# EAGLE library part 2MM-DUAL-8-HEADER (library DAC)
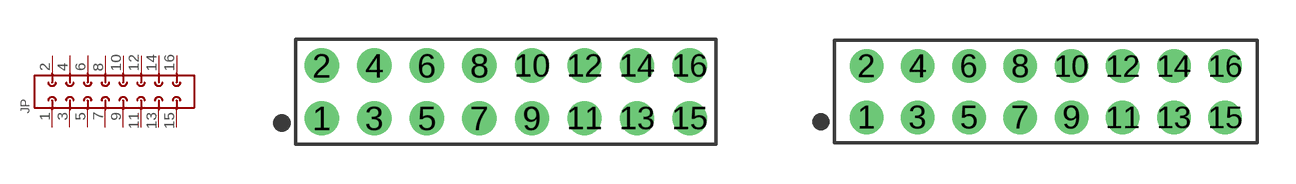
[diagram p20: symbol with the pads of 2MMDUALSTRAIGHTHEADER-8; footprints 2MMDUALSTRAIGHTHEADER-8, 2MMDUALSTRAIGHTRECPT-8]

Designator prefix JP

## 2MM-DUAL-8-HEADERM  [2MMDUALSTRAIGHTHEADER-8]
1  1
2  2
3  3
4  4
5  5
6  6
7  7
8  8
9  9
10  10
11  11
12  12
13  13
14  14
15  15
16  16

## 2MM-DUAL-8-HEADERF  [2MMDUALSTRAIGHTRECPT-8]
Pads as for 2MMDUALSTRAIGHTHEADER-8

## Footprint 2MMDUALSTRAIGHTHEADER-8 (pad centres in mm)
drill 0.8 round: 1 -7,-1; 2 -7,1; 3 -5,-1; 4 -5,1; 5 -3,-1; 6 -3,1; 7 -1,-1; 8 -1,1; 9 1,-1; 10 1,1; 11 3,-1; 12 3,1; 13 5,-1; 14 5,1; 15 7,-1; 16 7,1

## Footprint 2MMDUALSTRAIGHTRECPT-8 (pad centres in mm)
drill 0.8 round: 1 -7,-1; 2 -7,1; 3 -5,-1; 4 -5,1; 5 -3,-1; 6 -3,1; 7 -1,-1; 8 -1,1; 9 1,-1; 10 1,1; 11 3,-1; 12 3,1; 13 5,-1; 14 5,1; 15 7,-1; 16 7,1